# Altium schematic symbol library INA293A.SchLib: 1 symbol
Pins are listed as number, name and electrical type; pins without a type are passive.

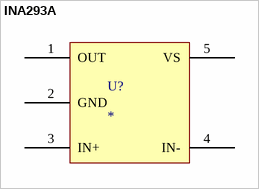
[diagram p0: symbol INA293A]

## INA293A
designator U?
pins: 1 OUT, 2 GND, 3 IN+, 4 IN-, 5 VS